# Altium schematic symbol library PLS.SchLib: 2 symbols
Pins are listed as number, name and electrical type; pins without a type are passive.

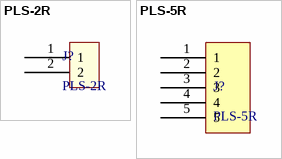
[diagram p0: symbols PLS-2R to PLS-5R]

## PLS-2R
designator J?
footprint PLS-2R
pins: 1, 2

## PLS-5R
designator J?
footprint PLS-5R
pins: 1, 2, 3, 4, 5